# EAGLE library part TPS62162 (library power)
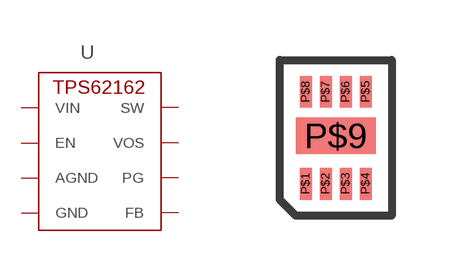
[diagram p6: symbol with the pads of WSON8; footprint WSON8]

Designator prefix U

## TPS62162DSGT  [WSON8]
P$1  GND  pwr
P$2  VIN  pwr
P$3  EN
P$4  AGND  pwr
P$5  FB
P$6  VOS
P$7  SW
P$8  PG
P$9  GND  pwr

## Footprint WSON8 (pad centres in mm)
smd 0.3 x 0.8: P$1 -0.75,-1.2; P$2 -0.25,-1.2; P$3 0.25,-1.2; P$4 0.75,-1.2; P$5 0.75,1.1; P$6 0.25,1.1; P$7 -0.25,1.1; P$8 -0.75,1.1
smd 2 x 0.9: P$9 0,0